# EAGLE library part FENIX_TESTJIG (library EurorackModularParts)
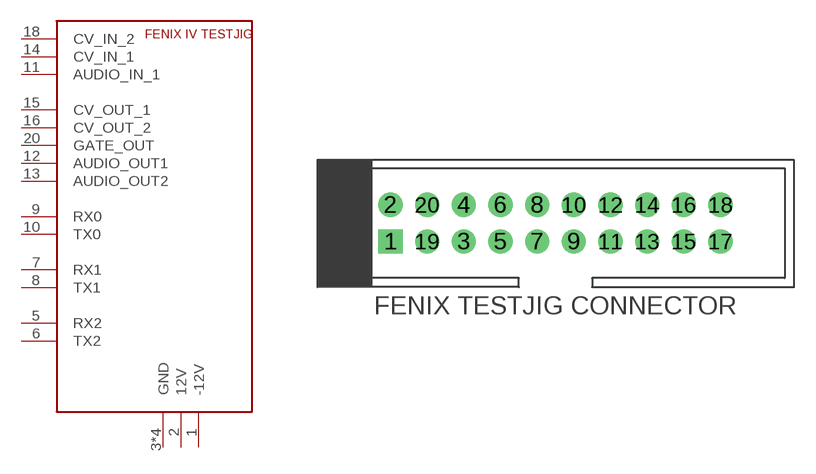
[diagram p32: symbol with the pads of FENIX_TEST_16PIN_SHROUD; footprint FENIX_TEST_16PIN_SHROUD]

Designator prefix -

## FENIX_TESTJIG  [FENIX_TEST_16PIN_SHROUD]
1  -12V
2  12V
3  GND
4  GND
5  RX2
6  TX2
7  RX1
8  TX1
9  RX0
10  TX0
11  AUDIO_IN_1
12  AUDIO_OUT1
13  AUDIO_OUT2
14  CV_IN_1
15  CV_OUT_1
16  CV_OUT_2
17  GND
18  CV_IN_2
19  GND
20  GATE_OUT

## Footprint FENIX_TEST_16PIN_SHROUD (pad centres in mm)
drill 1.016 pad 1.676 square: 1 -11.43,-1.27
drill 1.016 pad 1.676: 2 -11.43,1.27; 3 -6.35,-1.27; 4 -6.35,1.27; 5 -3.81,-1.27; 6 -3.81,1.27; 7 -1.27,-1.27; 8 -1.27,1.27; 9 1.27,-1.27; 10 1.27,1.27; 11 3.81,-1.27; 12 3.81,1.27; 13 6.35,-1.27; 14 6.35,1.27; 15 8.89,-1.27; 16 8.89,1.27; 17 11.43,-1.27; 18 11.43,1.27; 19 -8.89,-1.27; 20 -8.89,1.27